# Altium schematic symbol library ISL6236_A.SchLib: 19 symbols
Pins are listed as number, name and electrical type; pins without a type are passive.

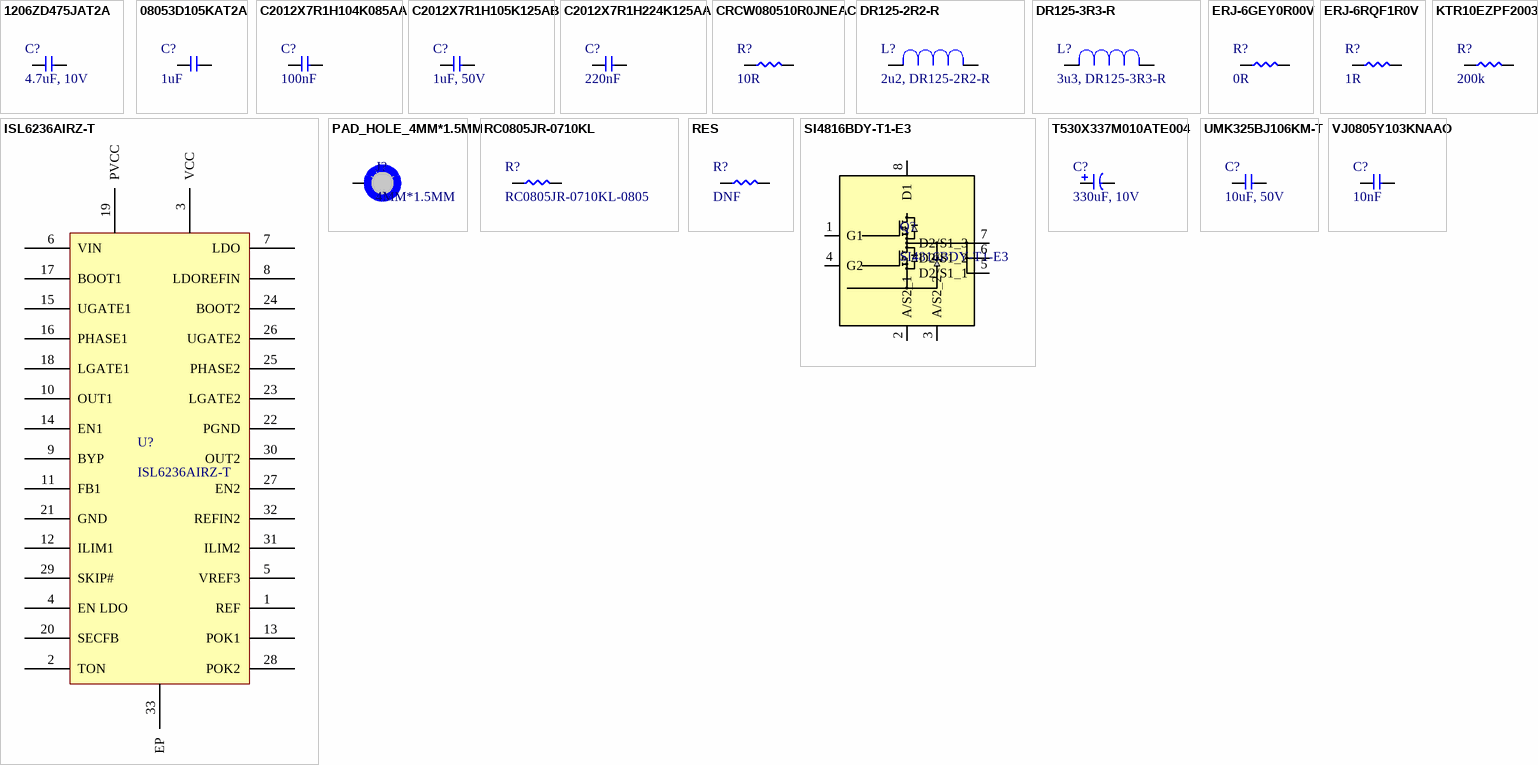
[diagram p0: symbols 1206ZD475JAT2A to VJ0805Y103KNAAO]

## 1206ZD475JAT2A
designator C?, comment 4.7uF, 10V
Multilayer Ceramic Capacitors MLCC - SMD/SMT 10V 4.7uF X5R 1206 5% Tol; Manufacturer: Kyocera AVX; Manufacturer Part Number: 1206ZD475JAT2A; Supplier 1: Digi-Key; Category: Ceramic Capacitors; Mount: Surface Mount; Case/Package: 1206; Case Code (Metric): 3216; Case Code (Imperial): 1206; Weight: 0.000571oz; Min Operating Temperature: -55°C; Max Operating Temperature: 85°C; Dielectric: X5R; Tolerance: 5%; Packaging: Tape and Reel; Capacitance: 4.7uF; Package Quantity: 2000; Voltage Rating: 10V; Voltage Rating (DC): 10V; Termination: SMD/SMT; Length: 3.2mm; Width: 0.063inch; Height: 0.07mm; Thickness: 0.037inch; Depth: 1.6mm; Radiation Hardening: No; ComponentLink1URL: https://datasheet.ciiva.com/11570/cx5r-11570917.pdf?src-supplier=Avnet; ComponentLink1Description: https://datasheet.ciiva.com/11570/cx5r-11570917.pdf?src-supplier=Avnet; ComponentLink2URL: https://datasheet.ciiva.com/6268/cx5r-6268857.pdf?src-supplier=Digi-Key; ComponentLink2Description: https://datasheet.ciiva.com/6268/cx5r-6268857.pdf?src-supplier=Digi-Key; Supplier Part Number 1: 478-12253-1-ND; RoHS: Yes; Stock 1: 9486; Pricing 1: 1=1.31000, 10=1.03500, 50=0.89700, 100=0.77620, 500=0.58650, 1000=0.51750 (USD)
footprint C1206
pins: 1, 2

## 08053D105KAT2A
designator C?, comment 1uF
AVX - 08053D105KAT2A - Condensatore Ceramico Multistrato SMD, 1 µF, 25 V, 0805 [2012 Metrico], ± 10%, X5R; Manufacturer: Kyocera AVX; Voltage Rating (DC): 25V; Supplier 1: Digi-Key; Category: Ceramic Capacitors; Mount: Surface Mount,PCB; Case/Package: 0805; Number of Pins: 2; Case Code (Metric): 2012; Case Code (Imperial): 0805; Contact Plating: Tin,Matte; Min Operating Temperature: -55°C; Max Operating Temperature: 85°C; Capacitance: 1uF; Tolerance: 10%; Packaging: Tape and Reel; Dielectric: X5R; Voltage: 25V; Package Quantity: 3000; Voltage Rating: 25V; Termination: SMD/SMT; Series: -; Construction: Flat; Length: 2.01mm; Width: 0.049inch; Height: 1.4mm; Depth: 1.25mm; Thickness: 0.055inch; Radiation Hardening: No; REACH SVHC: No SVHC; Lead Free: Lead Free; RoHS Compliant: Yes; ComponentLink1URL: https://datasheet.ciiva.com/11786/0900766b80def1a5-11786776.pdf?src-supplier=RSComponents; ComponentLink1Description: https://datasheet.ciiva.com/11786/0900766b80def1a5-11786776.pdf?src-supplier=RSComponents; ComponentLink2URL: https://datasheet.ciiva.com/153/cx5r-153219.pdf?src-supplier=Digi-Key; ComponentLink2Description: https://datasheet.ciiva.com/153/cx5r-153219.pdf?src-supplier=Digi-Key; ComponentLink3URL: https://datasheet.ciiva.com/153/cx5r-153220.pdf?src-supplier=Digi-Key; ComponentLink3Description: https://datasheet.ciiva.com/153/cx5r-153220.pdf?src-supplier=Digi-Key; ComponentLink4URL: https://datasheet.ciiva.com/153/cx5r-153221.pdf?src-supplier=Digi-Key; ComponentLink4Description: https://datasheet.ciiva.com/153/cx5r-153221.pdf?src-supplier=Digi-Key; ComponentLink5URL: https://datasheet.ciiva.com/7255/1796776-7255029.pdf?src-supplier=Newark; ComponentLink5Description: https://datasheet.ciiva.com/7255/1796776-7255029.pdf?src-supplier=Newark; ComponentLink6URL: https://datasheet.ciiva.com/14600/70001028-14600197.pdf?src-supplier=Allied+Electronics; ComponentLink6Description: https://datasheet.ciiva.com/14600/70001028-14600197.pdf?src-supplier=Allied+Electronics; ComponentLink7URL: https://datasheet.ciiva.com/15165/getdatasheetpartid-50524-15165237.pdf?src-supplier=Verical; ComponentLink7Description: https://datasheet.ciiva.com/15165/getdatasheetpartid-50524-15165237.pdf?src-supplier=Verical; ComponentLink8URL: https://datasheet.ciiva.com/14586/70001028-14586727.pdf?src-supplier=Allied+Electronics; ComponentLink8Description: https://datasheet.ciiva.com/14586/70001028-14586727.pdf?src-supplier=Allied+Electronics; ComponentLink9URL: https://datasheet.ciiva.com/16537/cx5r-16537015.pdf?src-supplier=Avnet+Asia; ComponentLink9Description: https://datasheet.ciiva.com/16537/cx5r-16537015.pdf?src-supplier=Avnet+Asia; ComponentLink10URL: https://datasheet.ciiva.com/7812/1666675-7812010.pdf?src-supplier=Element14; ComponentLink10Description: https://datasheet.ciiva.com/7812/1666675-7812010.pdf?src-supplier=Element14; ComponentLink11URL: https://datasheet.ciiva.com/7812/84508-7812011.pdf?src-supplier=Element14; ComponentLink11Description: https://datasheet.ciiva.com/7812/84508-7812011.pdf?src-supplier=Element14; ComponentLink12URL: https://datasheet.ciiva.com/2987/cx5r-2987964.pdf?src-supplier=Avnet; ComponentLink12Description: https://datasheet.ciiva.com/2987/cx5r-2987964.pdf?src-supplier=Avnet; ComponentLink13URL: https://datasheet.ciiva.com/7812/84508-7812012.pdf?src-supplier=Element14; ComponentLink13Description: https://datasheet.ciiva.com/7812/84508-7812012.pdf?src-supplier=Element14; ComponentLink14URL: https://datasheet.ciiva.com/11499/cx5r-11499853.pdf?src-supplier=Avnet; ComponentLink14Description: https://datasheet.ciiva.com/11499/cx5r-11499853.pdf?src-supplier=Avnet; ComponentLink15URL: https://datasheet.ciiva.com/28586/759405-28586814.pdf?src-supplier=Element14; ComponentLink15Description: https://datasheet.ciiva.com/28586/759405-28586814.pdf?src-supplier=Element14; Supplier Part Number 1: 478-1409-1-ND; Manufacturer Part Number: 08053D105KAT2A; RoHS: Yes; Stock 1: 26366; Pricing 1: 1=0.50000, 10=0.34500, 50=0.24160, 100=0.20700, 500=0.15524, 1000=0.13110 (USD)
footprint C0805
pins: 1, 2

## C2012X7R1H104K085AA
designator C?, comment 100nF
TDK - C2012X7R1H104K085AA - SMD Multilayer Ceramic Capacitor, 0.1 µF, 50 V, 0805 [2012 Metric], ± 10%, X7R, C Series; Voltage Rating: 50V; Supplier 1: Digi-Key; Category: Ceramic Capacitors; Mount: Surface Mount; Case/Package: 0805; Number of Pins: 2; Case Code (Metric): 2012; Case Code (Imperial): 0805; Weight: 0.000194oz; Dielectric Material: Ceramic; Min Operating Temperature: -55°C; Max Operating Temperature: 125°C; Package Quantity: 1; Packaging: Tape and Reel; Capacitance: 100nF; Tolerance: 10%; Voltage Rating (DC): 50V; Dielectric: X7R; Termination: SMD/SMT; Resistor Type: Ceramic; Voltage: 50V; Series: C; Construction: Flat; Length: 2mm; Width: 0.049inch; Height: 0.85mm; Thickness: 0.037inch; Depth: 1.25mm; Radiation Hardening: No; REACH SVHC: No SVHC; Lead Free: Lead Free; RoHS Compliant: Yes; ComponentLink1URL: https://datasheet.ciiva.com/11788/0900766b80c1bb00-11788128.pdf?src-supplier=RSComponents; ComponentLink1Description: https://datasheet.ciiva.com/11788/0900766b80c1bb00-11788128.pdf?src-supplier=RSComponents; ComponentLink2URL: https://datasheet.ciiva.com/6250/tdkmlcccaprange-6250821.pdf?src-supplier=Digi-Key; ComponentLink2Description: https://datasheet.ciiva.com/6250/tdkmlcccaprange-6250821.pdf?src-supplier=Digi-Key; ComponentLink3URL: https://datasheet.ciiva.com/24191/e412-c-24191447.pdf?src-supplier=Future+Electronics; ComponentLink3Description: https://datasheet.ciiva.com/24191/e412-c-24191447.pdf?src-supplier=Future+Electronics; ComponentLink4URL: https://datasheet.ciiva.com/6250/tdkmlcccaprange-6250824.pdf?src-supplier=Digi-Key; ComponentLink4Description: https://datasheet.ciiva.com/6250/tdkmlcccaprange-6250824.pdf?src-supplier=Digi-Key; ComponentLink5URL: https://datasheet.ciiva.com/23803/1796654-23803035.pdf?src-supplier=Newark; ComponentLink5Description: https://datasheet.ciiva.com/23803/1796654-23803035.pdf?src-supplier=Newark; ComponentLink6URL: https://datasheet.ciiva.com/28602/1571323-28602204.pdf?src-supplier=Element14; ComponentLink6Description: https://datasheet.ciiva.com/28602/1571323-28602204.pdf?src-supplier=Element14; Supplier Part Number 1: 445-7534-1-ND; Manufacturer: TDK; Manufacturer Part Number: C2012X7R1H104K085AA; RoHS: Yes; Stock 1: 36540; Pricing 1: 1=0.15000, 10=0.10900, 50=0.06160, 100=0.05100, 500=0.03578, 1000=0.02962 (USD)
footprint C0805
pins: 1, 2

## C2012X7R1H105K125AB
designator C?, comment 1uF, 50V
TDK - C2012X7R1H105K125AB - SMD Multilayer Ceramic Capacitor, 1 µF, 50 V, 0805 [2012 Metric], ± 10%, X7R, C Series TDK; Supplier 1: Digi-Key; Category: Ceramic Capacitors; Mount: Surface Mount; Case/Package: 0805; Number of Pins: 2; Case Code (Metric): 2012; Case Code (Imperial): 0805; Weight: 0.000194oz; Dielectric Material: Ceramic; Min Operating Temperature: -55°C; Max Operating Temperature: 125°C; Packaging: Tape and Reel; Package Quantity: 1; Capacitance: 1uF; Tolerance: 10%; Voltage Rating: 50V; Voltage Rating (DC): 50V; Dielectric: X7R; Termination: SMD/SMT; Resistor Type: Ceramic; Series: C; Construction: Flat; Length: 2mm; Width: 0.049inch; Height: 1.25mm; Thickness: 0.057inch; Depth: 1.25mm; Radiation Hardening: No; REACH SVHC: No SVHC; Lead Free: Lead Free; RoHS Compliant: Yes; ComponentLink1URL: https://datasheet.ciiva.com/22718/1796654-22718037.pdf?src-supplier=Element14; ComponentLink1Description: https://datasheet.ciiva.com/22718/1796654-22718037.pdf?src-supplier=Element14; ComponentLink2URL: https://datasheet.ciiva.com/6274/tdkmlcccaprange-6274890.pdf?src-supplier=Digi-Key; ComponentLink2Description: https://datasheet.ciiva.com/6274/tdkmlcccaprange-6274890.pdf?src-supplier=Digi-Key; ComponentLink3URL: https://datasheet.ciiva.com/23803/1796654-23803036.pdf?src-supplier=Newark; ComponentLink3Description: https://datasheet.ciiva.com/23803/1796654-23803036.pdf?src-supplier=Newark; ComponentLink4URL: https://datasheet.ciiva.com/28673/mlcc-commercial-general-en-28673565.pdf?src-supplier=Element14; ComponentLink4Description: https://datasheet.ciiva.com/28673/mlcc-commercial-general-en-28673565.pdf?src-supplier=Element14; ComponentLink5URL: https://datasheet.ciiva.com/6274/tdkmlcccaprange-6274886.pdf?src-supplier=Digi-Key; ComponentLink5Description: https://datasheet.ciiva.com/6274/tdkmlcccaprange-6274886.pdf?src-supplier=Digi-Key; ComponentLink6URL: https://datasheet.ciiva.com/6274/tdkmlcccaprange-6274888.pdf?src-supplier=Digi-Key; ComponentLink6Description: https://datasheet.ciiva.com/6274/tdkmlcccaprange-6274888.pdf?src-supplier=Digi-Key; ComponentLink7URL: https://datasheet.ciiva.com/24191/general-b11-24191449.pdf?src-supplier=Future+Electronics; ComponentLink7Description: https://datasheet.ciiva.com/24191/general-b11-24191449.pdf?src-supplier=Future+Electronics; Supplier Part Number 1: 445-7547-1-ND; Manufacturer: TDK; Manufacturer Part Number: C2012X7R1H105K125AB; RoHS: Yes; Stock 1: 19543; Pricing 1: 1=0.31000, 10=0.21500, 50=0.14360, 100=0.12200, 500=0.08612, 1000=0.07535 (USD)
footprint C0805
pins: 1, 2

## C2012X7R1H224K125AA
designator C?, comment 220nF
CERAMIC CAPACITOR 0.22UF, 50V, X7R, 10%, 0805, FULL REEL; Product Range:C Series; Capacitance:0.22 F; Capacitance Tolerance:  10%; Dielectric Characteristic:X7R; Voltage Rating:50V; Ceramic Capacitor Case:0805 ^2012 Metric]; MSL:-; Manufacturer: TDK; Manufacturer Part Number: C2012X7R1H224K125AA; Supplier 1: Digi-Key; Category: Ceramic Capacitors; Mount: Surface Mount; Case/Package: 0805; Number of Pins: 2; Case Code (Metric): 2012; Case Code (Imperial): 0805; Weight: 0.000194oz; Dielectric Material: Ceramic; Min Operating Temperature: -55°C; Max Operating Temperature: 125°C; Capacitance: 220nF; Voltage Rating: 50V; Tolerance: 10%; Packaging: Tape and Reel; Package Quantity: 1; Voltage Rating (DC): 50V; Dielectric: X7R; Termination: SMD/SMT; Resistor Type: Ceramic; Voltage: 50V; Series: C; Construction: Flat; Length: 2mm; Width: 0.049inch; Height: 1.25mm; Thickness: 0.057inch; Depth: 1.25mm; Radiation Hardening: No; REACH SVHC: No SVHC; Lead Free: Lead Free; RoHS Compliant: Yes; ComponentLink1URL: https://datasheet.ciiva.com/11788/0900766b80c1bb00-11788127.pdf?src-supplier=RSComponents; ComponentLink1Description: https://datasheet.ciiva.com/11788/0900766b80c1bb00-11788127.pdf?src-supplier=RSComponents; ComponentLink2URL: https://datasheet.ciiva.com/17487/e412-c-17487255.pdf?src-supplier=Avnet+Europe; ComponentLink2Description: https://datasheet.ciiva.com/17487/e412-c-17487255.pdf?src-supplier=Avnet+Europe; ComponentLink3URL: https://datasheet.ciiva.com/6292/tdkmlcccaprange-6292269.pdf?src-supplier=Digi-Key; ComponentLink3Description: https://datasheet.ciiva.com/6292/tdkmlcccaprange-6292269.pdf?src-supplier=Digi-Key; ComponentLink4URL: https://datasheet.ciiva.com/16427/e412-c-16427832.pdf?src-supplier=Future+Electronics; ComponentLink4Description: https://datasheet.ciiva.com/16427/e412-c-16427832.pdf?src-supplier=Future+Electronics; ComponentLink5URL: https://datasheet.ciiva.com/28602/1571323-28602205.pdf?src-supplier=Element14; ComponentLink5Description: https://datasheet.ciiva.com/28602/1571323-28602205.pdf?src-supplier=Element14; Supplier Part Number 1: 445-1350-1-ND; RoHS: Yes; Stock 1: 44733; Pricing 1: 1=0.17000, 10=0.12100, 50=0.06880, 100=0.05700, 500=0.03998, 1000=0.03310 (USD)
footprint C0805
pins: 1, 2

## CRCW080510R0JNEAC
designator R?, comment 10R
RES 10 OHM 5% 1/8W 0805; Manufacturer: Vishay Semiconductors; Manufacturer Part Number: CRCW080510R0JNEAC; Power Rating: 125mW; Supplier 1: Digi-Key; Category: Resistors; Case/Package: 0805; Resistance: 10R; Tolerance: 5%; Lead Free: Lead Free; RoHS Compliant: Yes; ComponentLink1URL: http://www.vishay.com/docs/28773/crcwce3.pdf?src-supplier=Digi-Key; ComponentLink1Description: http://www.vishay.com/docs/28773/crcwce3.pdf?src-supplier=Digi-Key; Supplier Part Number 1: 541-4167-1-ND; RoHS: Yes; Stock 1: 34379; Pricing 1: 1=0.10000, 10=0.04000, 100=0.01630, 1000=0.00731, 2500=0.00635 (USD)
footprint R0805KTR10
pins: 1, 2

## DR125-2R2-R
designator L?, comment 2u2, DR125-2R2-R
FIXED IND 2.2UH 10.9A 4.5 MOHM; Manufacturer: Eaton Cooper; Core Material: Ferrite; Saturation Current: 15A; Tolerance: 20%; Shielding: Shielded; DC Resistance (DCR): 4.5mR; Test Frequency: 100kHz; Supplier 1: Digi-Key; Category: Fixed Inductors; Mount: Surface Mount; Case/Package: Nonstandard; Number of Pins: 2; Weight: 0.144oz; Min Operating Temperature: -40°C; Max Operating Temperature: 125°C; Package Quantity: 600; Current Rating: 10.9A; Packaging: Tape and Reel; Inductance: 2.2uH; Inductance Tolerance: 20%; Resistor Type: Wirewound; Max DC Current: 10.9A; Termination: SMD/SMT; Self Resonant Frequency: 100kHz; DC Current: 10.9A; RMS Current (Irms): 10.9A; Series: DR; Rated Current-Max: 10.9A; Length: 12.5mm; Width: 0.492inch; Height: 6mm; Height - Seated (Max): 0.236inch; Depth: 12.5mm; Radiation Hardening: No; REACH SVHC: No SVHC; Military Standard: Not; Lead Free: Lead Free; RoHS Compliant: Yes; ComponentLink1URL: https://datasheet.ciiva.com/14667/0900766b8116a153-14667792.pdf?src-supplier=RSComponents; ComponentLink1Description: https://datasheet.ciiva.com/14667/0900766b8116a153-14667792.pdf?src-supplier=RSComponents; ComponentLink2URL: https://datasheet.ciiva.com/26926/getdatasheetpartid-571249-26926912.pdf?src-supplier=Verical; ComponentLink2Description: https://datasheet.ciiva.com/26926/getdatasheetpartid-571249-26926912.pdf?src-supplier=Verical; ComponentLink3URL: https://datasheet.ciiva.com/8004/87246-8004874.pdf?src-supplier=Element14; ComponentLink3Description: https://datasheet.ciiva.com/8004/87246-8004874.pdf?src-supplier=Element14; Supplier Part Number 1: 513-1662-1-ND; Manufacturer Part Number: DR125-2R2-R; RoHS: Yes; Stock 1: 1356; Pricing 1: 1=1.22000, 10=1.13800, 25=1.05000, 50=0.87500, 100=0.82250, 250=0.73500 (USD)
footprint DR125
pins: 1, 2

## DR125-3R3-R
designator L?, comment 3u3, DR125-3R3-R
Fixed Inductors 3.3uH 12.7A 0.0063ohms; Manufacturer: Eaton Cooper; Core Material: Ferrite; Current Rating: 9.26A; Tolerance: 20%; Shielding: Shielded; DC Resistance (DCR): 6.3mR; Test Frequency: 100kHz; Supplier 1: Digi-Key; Category: Fixed Inductors; Mount: Surface Mount; Case/Package: Nonstandard; Number of Pins: 2; Min Operating Temperature: -40°C; Max Operating Temperature: 125°C; Saturation Current: 12.7A; Packaging: Tape and Reel; Inductance Tolerance: 20%; Package Quantity: 600; Inductance: 3.3uH; Resistor Type: Wirewound; Max DC Current: 9.26A; Termination: SMD/SMT; RMS Current (Irms): 9.26A; Self Resonant Frequency: 100kHz; Length: 12.5mm; Width: 0.492inch; Height: 6mm; Height - Seated (Max): 0.236inch; Depth: 12.5mm; Radiation Hardening: No; REACH SVHC: No SVHC; Military Standard: Not; Supplier Part Number 1: 513-1529-1-ND; Manufacturer Part Number: DR125-3R3-R; RoHS: Yes; Stock 1: 3019; Pricing 1: 1=1.22000, 10=1.13800, 25=1.05000, 50=0.87500, 100=0.82250, 250=0.73500 (USD)
footprint DR125
pins: 1, 2

## ERJ-6GEY0R00V
designator R?, comment 0R
Resistor Thick Film 0805 0 Ohm 1-8w Surface Mount Embossed Carrier Tape and Reel; Manufacturer: Panasonic; Manufacturer Part Number: ERJ-6GEY0R00V; Voltage Rating: 150V; Power Rating: 125mW; Tolerance: 5%; Temperature Coefficient: 600ppm/°C; Current Rating: 2A; Supplier 1: Digi-Key; Category: Chip SMD Resistors; Mount: Surface Mount; Case/Package: 0805; Case Code (Imperial): 0805; Case Code (Metric): 2012; Contact Plating: Tin; Min Operating Temperature: -55°C; Max Operating Temperature: 155°C; Packaging: Tape and Reel; Resistance: 0R; Package Quantity: 1; Termination: SMD/SMT; Resistor Type: Thick Film; Number of Terminations: 2; Max Power Dissipation: 125mW; Voltage Rating (DC): 150V; Features: Automotive AEC-Q200; Series: ERJ; Technology: THICK FILM; Construction: Rectangular; Length: 2mm; Width: 1.25mm; Height: 0.6mm; Depth: 1.25mm; Radiation Hardening: No; REACH SVHC: No SVHC; Military Standard: Not; Lead Free: Lead Free; RoHS Compliant: Yes; ComponentLink1URL: https://datasheet.ciiva.com/11821/0900766b80f806dd-11821735.pdf?src-supplier=RSComponents; ComponentLink1Description: https://datasheet.ciiva.com/11821/0900766b80f806dd-11821735.pdf?src-supplier=RSComponents; ComponentLink2URL: https://datasheet.ciiva.com/28695/1678796-28695877.pdf?src-supplier=Element14; ComponentLink2Description: https://datasheet.ciiva.com/28695/1678796-28695877.pdf?src-supplier=Element14; ComponentLink3URL: https://datasheet.ciiva.com/43460/1678796-43460073.pdf?src-supplier=Farnell; ComponentLink3Description: https://datasheet.ciiva.com/43460/1678796-43460073.pdf?src-supplier=Farnell; ComponentLink4URL: https://datasheet.ciiva.com/9117/aoa0000ce1-9117354.pdf?src-supplier=Avnet; ComponentLink4Description: https://datasheet.ciiva.com/9117/aoa0000ce1-9117354.pdf?src-supplier=Avnet; ComponentLink5URL: https://datasheet.ciiva.com/46377/1678796-46377866.pdf?src-supplier=Element14; ComponentLink5Description: https://datasheet.ciiva.com/46377/1678796-46377866.pdf?src-supplier=Element14; Supplier Part Number 1: P0.0ACT-ND; RoHS: Yes; Pricing 1: 1=0.10000, 10=0.04900, 25=0.03560, 50=0.02720, 100=0.02010, 250=0.01528, 500=0.01224, 1000=0.00901 (USD)
footprint R0805KTR10
pins: 1, 2

## ERJ-6RQF1R0V
designator R?, comment 1R
SISTOR, THICK FILM, 1 OHM, 125mW, 1%; Product Range:PANASONIC - ERJ Series; Resistance:1ohm; Power Rating:125mW; Resistance Tolerance:± 1%; Resistor Case Style:0805 ^2012 Metric]; Resistor Element Type:Thick Film; MSL:-; Manufacturer Part Number: ERJ-6RQF1R0V; Temperature Coefficient: 200ppm/°C; Supplier 1: Digi-Key; Category: Chip SMD Resistors; Mount: Surface Mount; Case/Package: 0805; Number of Pins: 2; Case Code (Imperial): 0805; Case Code (Metric): 2012; Contact Plating: Tin; Size Code: 0805; Min Operating Temperature: -55°C; Max Operating Temperature: 125°C; Packaging: Tape and Reel; Package Quantity: 5000; Series: ERJ; Resistance: 1R; Tolerance: 1%; Power Rating: 125mW; Termination: SMD/SMT; Resistor Type: Thick Film; Number of Terminations: 2; Max Power Dissipation: 125mW; Technology: THICK FILM; Resistance Tolerance: 1%; Construction: Rectangular; Length: 2mm; Width: 1.2mm; Height: 0.6mm; Depth: 1.25mm; Radiation Hardening: No; Lead Free: Lead Free; RoHS Compliant: Yes; REACH SVHC: No SVHC; Military Standard: Not; ComponentLink1URL: https://datasheet.ciiva.com/11818/0900766b80eefa12-11818468.pdf?src-supplier=RSComponents; ComponentLink1Description: https://datasheet.ciiva.com/11818/0900766b80eefa12-11818468.pdf?src-supplier=RSComponents; ComponentLink2URL: https://datasheet.ciiva.com/36525/1381829-36525978.pdf?src-supplier=Jameco; ComponentLink2Description: https://datasheet.ciiva.com/36525/1381829-36525978.pdf?src-supplier=Jameco; ComponentLink3URL: https://datasheet.ciiva.com/46446/391509-46446341.pdf?src-supplier=Element14; ComponentLink3Description: https://datasheet.ciiva.com/46446/391509-46446341.pdf?src-supplier=Element14; ComponentLink4URL: https://datasheet.ciiva.com/28691/391509-28691990.pdf?src-supplier=Element14; ComponentLink4Description: https://datasheet.ciiva.com/28691/391509-28691990.pdf?src-supplier=Element14; ComponentLink5URL: https://datasheet.ciiva.com/16783/70068852-16783991.pdf?src-supplier=Allied+Electronics; ComponentLink5Description: https://datasheet.ciiva.com/16783/70068852-16783991.pdf?src-supplier=Allied+Electronics; ComponentLink6URL: https://datasheet.ciiva.com/9198/aoa0000ce3-9198856.pdf?src-supplier=Avnet; ComponentLink6Description: https://datasheet.ciiva.com/9198/aoa0000ce3-9198856.pdf?src-supplier=Avnet; ComponentLink7URL: https://datasheet.ciiva.com/17215/aoa0000ce3-17215193.pdf?src-supplier=Avnet+Europe; ComponentLink7Description: https://datasheet.ciiva.com/17215/aoa0000ce3-17215193.pdf?src-supplier=Avnet+Europe; ComponentLink8URL: https://datasheet.ciiva.com/16507/aoa0000ce3-16507437.pdf?src-supplier=Future+Electronics; ComponentLink8Description: https://datasheet.ciiva.com/16507/aoa0000ce3-16507437.pdf?src-supplier=Future+Electronics; Supplier Part Number 1: P1.0DCT-ND; Manufacturer: Panasonic; RoHS: Yes; Stock 1: 1952; Pricing 1: 1=0.32000, 10=0.27000, 25=0.19600, 50=0.14200, 100=0.10540, 250=0.08084, 500=0.06370, 1000=0.04410 (USD)
footprint R0805KTR10
pins: 1, 2

## ISL6236AIRZ-T
designator U?
IC MAIN PWR CTRLR QUAD 32-QFN; Manufacturer: Intersil; Output Current: 20A; Number of Outputs: 2; Switching Frequency: 500kHz; Supplier 1: Avnet; Manufacturer Part Number: ISL6236AIRZ-T; RoHS: Yes; Category: Uncategorized; Pricing 1: 6000=3.10391, 12000=3.03600, 24000=2.99000, 36000=2.94400, 48000=2.89800, 60000=2.85200, 600000=2.80600 (USD); Mount: Surface Mount; Case/Package: QFN; Number of Pins: 32; Min Operating Temperature: -40°C; Max Operating Temperature: 100°C; Packaging: Tape and Reel; Package Quantity: 6000; Series: ISL6236; Length: 5mm; Width: 5mm; Height: 0.95mm; Radiation Hardening: No; RoHS Compliant: Yes; ComponentLink1URL: https://datasheet.ciiva.com/2079/fn6453-2079351.pdf?src-supplier=Digi-Key; ComponentLink1Description: https://datasheet.ciiva.com/2079/fn6453-2079351.pdf?src-supplier=Digi-Key; ComponentLink2URL: https://datasheet.ciiva.com/24138/fn6453-80078-24138323.pdf?src-supplier=Mouser; ComponentLink2Description: https://datasheet.ciiva.com/24138/fn6453-80078-24138323.pdf?src-supplier=Mouser; ComponentLink3URL: https://datasheet.ciiva.com/25905/fn6453-25905352.pdf?src-supplier=Avnet+Europe; ComponentLink3Description: https://datasheet.ciiva.com/25905/fn6453-25905352.pdf?src-supplier=Avnet+Europe; Supplier Part Number 1: ISL6236AIRZ-T
footprint L3255xB
pins: 1 REF, 2 TON, 3 VCC, 4 EN LDO, 5 VREF3, 6 VIN, 7 LDO, 8 LDOREFIN, 9 BYP, 10 OUT1, 11 FB1, 12 ILIM1, 13 POK1, 14 EN1, 15 UGATE1, 16 PHASE1, 17 BOOT1, 18 LGATE1, 19 PVCC, 20 SECFB, 21 GND, 22 PGND, 23 LGATE2, 24 BOOT2, 25 PHASE2, 26 UGATE2, 27 EN2, 28 POK2, 29 SKIP#, 30 OUT2, 31 ILIM2, 32 REFIN2, 33 EP

## KTR10EZPF2003
designator R?, comment 200k
RES SMD 200K OHM 1% 1/8W 0805; Manufacturer: Rohm; Manufacturer Part Number: KTR10EZPF2003; Resistance: 200kR; Max Power Dissipation: 125mW; Temperature Coefficient: 100ppm/°C; Supplier 1: Digi-Key; Category: Chip SMD Resistors; Case/Package: 0805; Case Code (Imperial): 0805; Case Code (Metric): 2012; Min Operating Temperature: -55°C; Max Operating Temperature: 155°C; Resistor Type: Thick Film; Features: Automotive AEC-Q200; Packaging: Tape and Reel; Tolerance: 1%; Number of Terminations: 2; Series: KTR; RoHS Compliant: Yes; ComponentLink1URL: https://www.rohm.com/datasheet/KTR03EZPF/ktr-e?src-supplier=Digi-Key; ComponentLink1Description: https://www.rohm.com/datasheet/KTR03EZPF/ktr-e?src-supplier=Digi-Key; Supplier Part Number 1: RHM200KAHCT-ND; RoHS: Yes; Stock 1: 21418; Pricing 1: 1=0.18000, 10=0.15200, 100=0.05930, 1000=0.02484, 2500=0.02277 (USD)
footprint R0805KTR10
pins: 1, 2

## PAD_HOLE_4MM*1.5MM
designator J?, comment 4MM*1.5MM
pin with a hole 4mm*1.5mm
footprint PAD_WITH_HOLE_4MMx1.5MM
pins: 1

## RC0805JR-0710KL
designator R?, comment RC0805JR-0710KL-0805
YAGEO - RC0805JR-0710KL - RES, 10K, 5%, 0.125W, 0805, THICK FILM; Resistance: 10kR; Power Rating: 125mW; Temperature Coefficient: 100ppm/°C; Voltage Rating: 150V; Supplier 1: Digi-Key; Category: Chip SMD Resistors; Case/Package: 0805; Contact Plating: Tin,Matte; Case Code (Imperial): 0805; Case Code (Metric): 2012; Size Code: 0805; Min Operating Temperature: -55°C; Max Operating Temperature: 155°C; Resistor Type: Thick Film; Tolerance: 5%; Packaging: Tape and Reel; Termination: SMD/SMT; Features: Moisture Resistant; Series: RC; Max Power Dissipation: 125mW; Number of Terminations: 2; Resistance Tolerance: 5%; Construction: Rectangular; Length: 2mm; Width: 1.25mm; Height: 0.5mm; Depth: 1.25mm; Radiation Hardening: No; RoHS Compliant: Yes; REACH SVHC: Unknown; Military Standard: Not; Lead Free: Lead Free; ComponentLink1URL: https://datasheet.ciiva.com/7983/444164-7983765.pdf?src-supplier=Element14; ComponentLink1Description: https://datasheet.ciiva.com/7983/444164-7983765.pdf?src-supplier=Element14; ComponentLink2URL: https://datasheet.ciiva.com/7941/444164-7941870.pdf?src-supplier=Element14; ComponentLink2Description: https://datasheet.ciiva.com/7941/444164-7941870.pdf?src-supplier=Element14; ComponentLink3URL: https://datasheet.ciiva.com/7941/444164-7941871.pdf?src-supplier=Element14; ComponentLink3Description: https://datasheet.ciiva.com/7941/444164-7941871.pdf?src-supplier=Element14; Supplier Part Number 1: 311-10KARCT-ND; Manufacturer: Yageo; Manufacturer Part Number: RC0805JR-0710KL; RoHS: Yes; Stock 1: 5687736; Pricing 1: 1=0.10000, 10=0.03600, 100=0.01450, 1000=0.00652, 2500=0.00566 (USD)
footprint R0805KTR10
pins: 1, 2

## RES
designator R?, comment DNF
footprint R0805KTR10
pins: 1, 2

## SI4816BDY-T1-E3
designator Q?
MOSFET 2N-CH 30V 5.8A 8-SOIC; Manufacturer: Vishay Siliconix; Nominal Vgs: 3V; Rise Time: 9ns; Rds On Max: 18.5mR; Number of Elements: 2; Continuous Drain Current (ID): 8.2A; Drain to Source Resistance: 11.5mR; Gate to Source Voltage (Vgs): 20V; Max Power Dissipation: 1.25W; Turn-Off Delay Time: 31ns; Turn-On Delay Time: 13ns; Threshold Voltage: 1V; Element Configuration: Single; FET Type: 2 N-Channel; Polarity: N-CHANNEL; Supplier 1: Digi-Key; Category: MOSFETs; Mount: Surface Mount; Case/Package: SO; Number of Pins: 8; Weight: 0.006596oz; Min Operating Temperature: -55°C; Max Operating Temperature: 150°C; Packaging: Tape and Reel; Package Quantity: 1; Drain to Source Voltage (Vdss): 30V; Fall Time: 9ns; Number of Channels: 2; On-State Resistance: 18.5mR; Series: LITTLE FOOT®; Drain-source On Resistance-Max: 18.5mR; Length: 5mm; Width: 4mm; Height: 1.55mm; Radiation Hardening: No; REACH SVHC: Unknown; Lead Free: Lead Free; RoHS Compliant: Yes; ComponentLink1URL: https://datasheet.ciiva.com/15137/getdatasheetpartid-99188-15137841.pdf?src-supplier=Verical; ComponentLink1Description: https://datasheet.ciiva.com/15137/getdatasheetpartid-99188-15137841.pdf?src-supplier=Verical; ComponentLink2URL: https://datasheet.ciiva.com/7710/si4816bd-7710449.pdf?src-supplier=Element14; ComponentLink2Description: https://datasheet.ciiva.com/7710/si4816bd-7710449.pdf?src-supplier=Element14; ComponentLink3URL: https://datasheet.ciiva.com/26789/si4816bdy-t1-e3-26789112.pdf?src-supplier=IIIC; ComponentLink3Description: https://datasheet.ciiva.com/26789/si4816bdy-t1-e3-26789112.pdf?src-supplier=IIIC; ComponentLink4URL: https://datasheet.ciiva.com/11161/si4816bd-11161496.pdf?src-supplier=Avnet; ComponentLink4Description: https://datasheet.ciiva.com/11161/si4816bd-11161496.pdf?src-supplier=Avnet; ComponentLink5URL: https://datasheet.ciiva.com/928/si4816bd-928460.pdf?src-supplier=Digi-Key; ComponentLink5Description: https://datasheet.ciiva.com/928/si4816bd-928460.pdf?src-supplier=Digi-Key; ComponentLink6URL: https://datasheet.ciiva.com/16486/si4816bd-16486349.pdf?src-supplier=Future+Electronics; ComponentLink6Description: https://datasheet.ciiva.com/16486/si4816bd-16486349.pdf?src-supplier=Future+Electronics; ComponentLink7URL: https://datasheet.ciiva.com/26136/si4816bd-26136990.pdf?src-supplier=Avnet+Europe; ComponentLink7Description: https://datasheet.ciiva.com/26136/si4816bd-26136990.pdf?src-supplier=Avnet+Europe; ComponentLink8URL: https://datasheet.ciiva.com/18448/70026226-18448822.pdf?src-supplier=Allied+Electronics; ComponentLink8Description: https://datasheet.ciiva.com/18448/70026226-18448822.pdf?src-supplier=Allied+Electronics; ComponentLink9URL: https://datasheet.ciiva.com/928/si4816bd-928458.pdf?src-supplier=Digi-Key; ComponentLink9Description: https://datasheet.ciiva.com/928/si4816bd-928458.pdf?src-supplier=Digi-Key; ComponentLink10URL: https://datasheet.ciiva.com/928/si4816bd-928459.pdf?src-supplier=Digi-Key; ComponentLink10Description: https://datasheet.ciiva.com/928/si4816bd-928459.pdf?src-supplier=Digi-Key; Supplier Part Number 1: SI4816BDY-T1-E3CT-ND; Manufacturer Part Number: SI4816BDY-T1-E3; RoHS: Yes; Stock 1: 70; Pricing 1: 1=1.72000, 10=1.54500, 25=1.45760, 100=1.24180, 500=1.02024, 1000=0.84535 (USD)
footprint SO-8
pins: 1 G1, 2 A/S2_1, 3 A/S2_2, 4 G2, 5 D2/S1_1, 6 D2/S1_2, 7 D2/S1_3, 8 D1

## T530X337M010ATE004
designator C?, comment 330uF, 10V
Tantalum Capacitors - Polymer SMD 330uF 10volts 20%; Manufacturer: KEMET; Manufacturer Part Number: T530X337M010ATE004; Ripple Current: 8.2A; ESR (Equivalent Series Resistance): 4mR; Leakage Current: 330uA; Polarity: Polar; Dissipation Factor: 8%; Life (Hours): 2000Hour; Supplier 1: Digi-Key; Category: Polymer Capacitors; Mount: Surface Mount,PCB; Case/Package: 2917; Case Code (Imperial): 2917; Case Code (Metric): 7343; Min Operating Temperature: -55°C; Max Operating Temperature: 125°C; Package Quantity: 500; Voltage Rating (DC): 10V; Capacitance: 330uF; Tolerance: 20%; Packaging: Tape and Reel; Voltage Rating: 10V; Termination: SMD/SMT; Voltage: 10V; Features: General Purpose; Series: T530; Construction: Flat; Length: 7.3mm; Width: 4.3mm; Height: 4mm; Height - Seated (Max): 0.169inch; Depth: 4.3mm; REACH SVHC: No SVHC; RoHS Compliant: Yes; ComponentLink1URL: https://datasheet.ciiva.com/11794/0900766b80deaa91-11794477.pdf?src-supplier=RSComponents; ComponentLink1Description: https://datasheet.ciiva.com/11794/0900766b80deaa91-11794477.pdf?src-supplier=RSComponents; ComponentLink2URL: https://datasheet.ciiva.com/14593/70096008-14593753.pdf?src-supplier=Allied+Electronics; ComponentLink2Description: https://datasheet.ciiva.com/14593/70096008-14593753.pdf?src-supplier=Allied+Electronics; Supplier Part Number 1: 399-10378-1-ND; RoHS: Yes; Stock 1: 419; Pricing 1: 1=7.14000, 10=6.34700, 50=5.55360, 100=5.07760 (USD)
footprint CAP_734343
pins: 1, 2

## UMK325BJ106KM-T
designator C?, comment 10uF, 50V
Cap Ceramic 10uF 50V X5R 10% SMD 1210 85C T/R; Manufacturer: Taiyo Yuden; Manufacturer Part Number: UMK325BJ106KM-T; Supplier 1: Digi-Key; Category: Ceramic Capacitors; Mount: Surface Mount; Case/Package: 1210; Number of Pins: 2; Case Code (Metric): 3225; Case Code (Imperial): 1210; Contact Plating: Nickel; Min Operating Temperature: -55°C; Max Operating Temperature: 85°C; Capacitance: 10uF; Tolerance: 10%; Voltage Rating: 50V; Packaging: Tape and Reel; Package Quantity: 500; Dielectric: X5R; Termination: SMD/SMT; Voltage Rating (DC): 50V; Voltage: 50V; Series: M; Construction: Flat; Length: 0.126inch; Width: 0.098inch; Height: 2.5mm; Thickness: 0.106inch; Depth: 2.5mm; Radiation Hardening: No; REACH SVHC: No SVHC; Lead Free: Lead Free; Halogen Free: Halogen Free; RoHS Compliant: Yes; ComponentLink1URL: https://datasheet.ciiva.com/30176/194umk325bj106km-t-30176008.pdf?src-supplier=Onlinecomponents.com; ComponentLink1Description: https://datasheet.ciiva.com/30176/194umk325bj106km-t-30176008.pdf?src-supplier=Onlinecomponents.com; ComponentLink2URL: https://datasheet.ciiva.com/30051/155umk325bj106km-t-30051915.pdf?src-supplier=Onlinecomponents.com; ComponentLink2Description: https://datasheet.ciiva.com/30051/155umk325bj106km-t-30051915.pdf?src-supplier=Onlinecomponents.com; ComponentLink3URL: https://datasheet.ciiva.com/141/mlcc-all-e-141385.pdf?src-supplier=Digi-Key; ComponentLink3Description: https://datasheet.ciiva.com/141/mlcc-all-e-141385.pdf?src-supplier=Digi-Key; ComponentLink4URL: https://datasheet.ciiva.com/141/mlcc-all-e-141386.pdf?src-supplier=Digi-Key; ComponentLink4Description: https://datasheet.ciiva.com/141/mlcc-all-e-141386.pdf?src-supplier=Digi-Key; ComponentLink5URL: https://datasheet.ciiva.com/22694/1497285-22694282.pdf?src-supplier=Element14; ComponentLink5Description: https://datasheet.ciiva.com/22694/1497285-22694282.pdf?src-supplier=Element14; ComponentLink6URL: https://datasheet.ciiva.com/141/mlcc-all-e-141387.pdf?src-supplier=Digi-Key; ComponentLink6Description: https://datasheet.ciiva.com/141/mlcc-all-e-141387.pdf?src-supplier=Digi-Key; ComponentLink7URL: https://datasheet.ciiva.com/5412/mlcc01-e-5412012.pdf?src-supplier=Mouser; ComponentLink7Description: https://datasheet.ciiva.com/5412/mlcc01-e-5412012.pdf?src-supplier=Mouser; ComponentLink8URL: https://datasheet.ciiva.com/7975/1497285-7975566.pdf?src-supplier=Element14; ComponentLink8Description: https://datasheet.ciiva.com/7975/1497285-7975566.pdf?src-supplier=Element14; ComponentLink9URL: https://datasheet.ciiva.com/15922/cmultilayerceramiccapacitor-15922702.pdf?src-supplier=Onlinecomponents.com; ComponentLink9Description: https://datasheet.ciiva.com/15922/cmultilayerceramiccapacitor-15922702.pdf?src-supplier=Onlinecomponents.com; ComponentLink10URL: https://datasheet.ciiva.com/22748/1910934-22748126.pdf?src-supplier=Element14; ComponentLink10Description: https://datasheet.ciiva.com/22748/1910934-22748126.pdf?src-supplier=Element14; Supplier Part Number 1: 587-2247-1-ND; RoHS: Yes; Stock 1: 128928; Pricing 1: 1=0.71000, 10=0.52300, 50=0.41860, 100=0.35880 (USD)
footprint CAP1210
pins: 1, 2

## VJ0805Y103KNAAO
designator C?, comment 10nF
CAP CER 10000PF 50V X7R 0805; Manufacturer: Vishay Vitramon; Manufacturer Part Number: VJ0805Y103KNAAO; Tolerance: 10%; Supplier 1: Digi-Key; Category: Ceramic Capacitors; Mount: Surface Mount; Case/Package: 0805; Case Code (Metric): 2012; Case Code (Imperial): 0805; Min Operating Temperature: -55°C; Max Operating Temperature: 125°C; Packaging: Tape and Reel; Capacitance: 10nF; Package Quantity: 1; Voltage Rating: 50V; Voltage Rating (DC): 50V; Dielectric: X7R; Termination: SMD/SMT; Voltage: 50V; Series: VJ; Construction: Flat; Length: 2mm; Width: 0.049inch; Height: 1.45mm; Thickness: 0.057inch; Depth: 1.25mm; Radiation Hardening: No; REACH SVHC: Unknown; RoHS Compliant: Yes; ComponentLink1URL: https://datasheet.ciiva.com/25613/0900766b8104796c-25613141.pdf?src-supplier=RSComponents; ComponentLink1Description: https://datasheet.ciiva.com/25613/0900766b8104796c-25613141.pdf?src-supplier=RSComponents; ComponentLink2URL: https://datasheet.ciiva.com/148/nonmagneticepoxybond-148342.pdf?src-supplier=Digi-Key; ComponentLink2Description: https://datasheet.ciiva.com/148/nonmagneticepoxybond-148342.pdf?src-supplier=Digi-Key; ComponentLink3URL: https://datasheet.ciiva.com/148/nonmagneticepoxybond-148343.pdf?src-supplier=Digi-Key; ComponentLink3Description: https://datasheet.ciiva.com/148/nonmagneticepoxybond-148343.pdf?src-supplier=Digi-Key; ComponentLink4URL: https://datasheet.ciiva.com/148/nonmagneticepoxybond-148344.pdf?src-supplier=Digi-Key; ComponentLink4Description: https://datasheet.ciiva.com/148/nonmagneticepoxybond-148344.pdf?src-supplier=Digi-Key; ComponentLink5URL: https://datasheet.ciiva.com/46417/1805046-46417853.pdf?src-supplier=Element14; ComponentLink5Description: https://datasheet.ciiva.com/46417/1805046-46417853.pdf?src-supplier=Element14; ComponentLink6URL: https://datasheet.ciiva.com/46417/1805046-46417854.pdf?src-supplier=Element14; ComponentLink6Description: https://datasheet.ciiva.com/46417/1805046-46417854.pdf?src-supplier=Element14; Supplier Part Number 1: 720-1244-1-ND; RoHS: Yes; Stock 1: 190; Pricing 1: 1=0.74000, 10=0.45300, 50=0.32540, 100=0.28140 (USD)
footprint C0805
pins: 1, 2